# Altium schematic symbol library FUSE-SMD.SchLib: 1 symbol
Pins are listed as number, name and electrical type; pins without a type are passive.

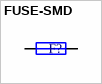
[diagram p0: symbol FUSE-SMD]

## FUSE-SMD
designator F?  (value not drawn)
Resistor
pins: 1, 2